# Altium integrated library Launcher Custom Footprints.IntLib: 14 symbols
Pins are listed as number, name and electrical type; pins without a type are passive.

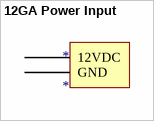
[diagram p0: symbol 12GA Power Input]

## 12GA Power Input
designator *
footprint Power_Input
pins: 1 12VDC, 2 GND


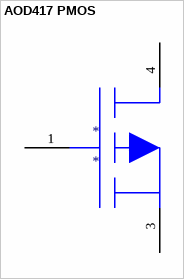
[diagram p1: symbol AOD417 PMOS]

## AOD417 PMOS
designator *
footprint TO252- no center pin
pins: 1 1 - Gate, 3 3 - Source, 4 4 - Drain


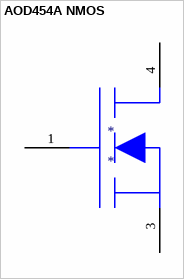
[diagram p2: symbol AOD454A NMOS]

## AOD454A NMOS
designator *
footprint TO252- no center pin
pins: 1 1 - Gate, 3 3 - Source, 4 4 - Drain


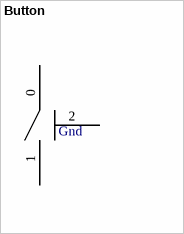
[diagram p3: symbol Button]

## Button
designator SW?  (value not drawn)
Momentary Button; Published: 24-Mar-1999; LatestRevisionDate: 17-Jul-2002; LatestRevisionNote: Re-released for DXP Platform.; PackageReference: TO-205AF; Publisher: Altium Limited; Code_JEDEC: TO-205-AF
footprint Button_footprint
pins: 0, 1, 2
text: Gnd


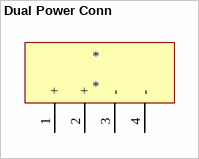
[diagram p4: symbol Dual Power Conn]

## Dual Power Conn
designator *
footprint Dual 12Ga Power Connection
pins: 1 +, 2 +, 3 -, 4 -


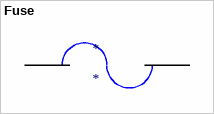
[diagram p5: symbol Fuse]

## Fuse
designator *
footprint Fuse Holder (30Amp)
pins: 1, 2


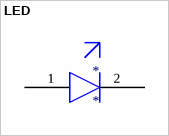
[diagram p6: symbol LED]

## LED
designator *
footprint 1206 Footprint
pins: 1, 2


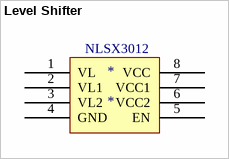
[diagram p7: symbol Level Shifter]

## Level Shifter
designator *
footprint SOI8 Package
pins: 1 VL, 2 VL1, 3 VL2, 4 GND, 5 EN, 6 VCC2, 7 VCC1, 8 VCC
text: NLSX3012


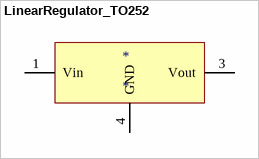
[diagram p8: symbol LinearRegulator_TO252]

## LinearRegulator_TO252
designator *
footprint TO252- no center pin
pins: 1 Vin, 3 Vout, 4 GND


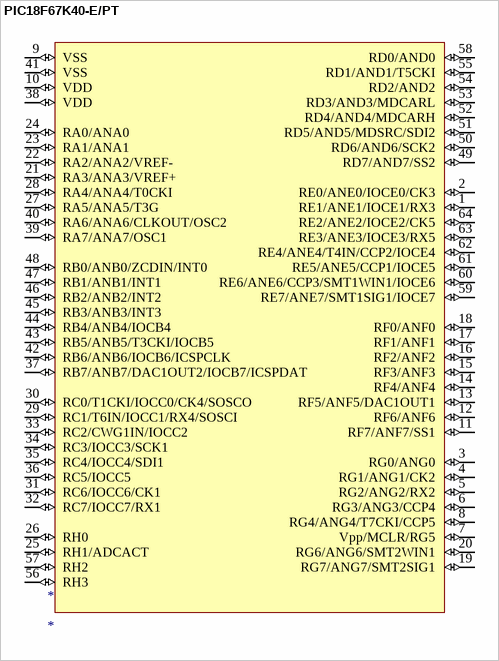
[diagram p9: symbol PIC18F67K40-E/PT]

## PIC18F67K40-E/PT
designator *
footprint 64TQFP
footprint 64TQFP
pins: 1 RE1/ANE1/IOCE1/RX3 (io) "RE1", 2 RE0/ANE0/IOCE0/CK3 (io) "RE1", 3 RG0/ANG0 (io) "RE1", 4 RG1/ANG1/CK2 (io) "RE1", 5 RG2/ANG2/RX2 (io) "RE1", 6 RG3/ANG3/CCP4 (io) "RE1", 7 Vpp/MCLR/RG5 (io) "RE1", 8 RG4/ANG4/T7CKI/CCP5 (io) "RE1", 9 VSS (io) "RE1", 10 VDD (io) "RE1", 11 RF7/ANF7/SS1 (io) "RE1", 12 RF6/ANF6 (io) "RE1", 13 RF5/ANF5/DAC1OUT1 (io) "RE1", 14 RF4/ANF4 (io) "RE1", 15 RF3/ANF3 (io) "RE1", 16 RF2/ANF2 (io) "RE1", 17 RF1/ANF1 (io) "RE1", 18 RF0/ANF0 (io) "RE1", 19 RG7/ANG7/SMT2SIG1 (io) "RE1", 20 RG6/ANG6/SMT2WIN1 (io) "RE1", 21 RA3/ANA3/VREF+ (io) "RE1", 22 RA2/ANA2/VREF- (io) "RE1", 23 RA1/ANA1 (io) "RE1", 24 RA0/ANA0 (io) "RE1", 25 RH1/ADCACT (io) "RE1", 26 RH0 (io) "RE1", 27 RA5/ANA5/T3G (io) "RE1", 28 RA4/ANA4/T0CKI (io) "RE1", 29 RC1/T6IN/IOCC1/RX4/SOSCI (io) "RE1", 30 RC0/T1CKI/IOCC0/CK4/SOSCO (io) "RE1", 31 RC6/IOCC6/CK1 (io) "RE1", 32 RC7/IOCC7/RX1 (io) "RE1", 33 RC2/CWG1IN/IOCC2 (io) "RE1", 34 RC3/IOCC3/SCK1 (io) "RE1", 35 RC4/IOCC4/SDI1 (io) "RE1", 36 RC5/IOCC5 (io) "RE1", 37 RB7/ANB7/DAC1OUT2/IOCB7/ICSPDAT (io) "RE1", 38 VDD (io) "RE1", 39 RA7/ANA7/OSC1 (io) "RE1", 40 RA6/ANA6/CLKOUT/OSC2 (io) "RE1", 41 VSS (io) "RE1", 42 RB6/ANB6/IOCB6/ICSPCLK (io) "RE1", 43 RB5/ANB5/T3CKI/IOCB5 (io) "RE1", 44 RB4/ANB4/IOCB4 (io) "RE1", 45 RB3/ANB3/INT3 (io) "RE1", 46 RB2/ANB2/INT2 (io) "RE1", 47 RB1/ANB1/INT1 (io) "RE1", 48 RB0/ANB0/ZCDIN/INT0 (io) "RE1", 49 RD7/AND7/SS2 (io) "RE1", 50 RD6/AND6/SCK2 (io) "RE1", 51 RD5/AND5/MDSRC/SDI2 (io) "RE1", 52 RD4/AND4/MDCARH (io) "RE1", 53 RD3/AND3/MDCARL (io) "RE1", 54 RD2/AND2 (io) "RE1", 55 RD1/AND1/T5CKI (io) "RE1", 56 RH3 (io) "RE1", 57 RH2 (io) "RE1", 58 RD0/AND0 (io) "RE1", 59 RE7/ANE7/SMT1SIG1/IOCE7 (io) "RE1", 60 RE6/ANE6/CCP3/SMT1WIN1/IOCE6 (io) "RE1", 61 RE5/ANE5/CCP1/IOCE5 (io) "RE1", 62 RE4/ANE4/T4IN/CCP2/IOCE4 (io) "RE1", 63 RE3/ANE3/IOCE3/RX5 (io) "RE1", 64 RE2/ANE2/IOCE2/CK5 (io) "RE1"


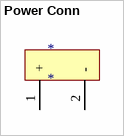
[diagram p10: symbol Power Conn]

## Power Conn
designator *
footprint 12Ga Power Connection
pins: 1 +, 2 -


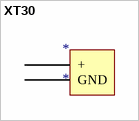
[diagram p11: symbol XT30]

## XT30
designator *
footprint XT30
pins: 1 +, 2 GND


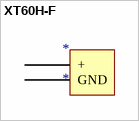
[diagram p12: symbol XT60H-F]

## XT60H-F
designator *
footprint XT60H-F
pins: 1 +, 2 GND


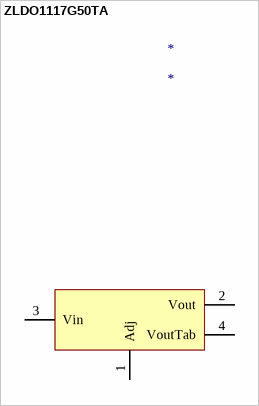
[diagram p13: symbol ZLDO1117G50TA]

## ZLDO1117G50TA
designator *
footprint SOT223
pins: 1 Adj, 2 Vout, 3 Vin, 4 VoutTab